# EAGLE library part SST26VF (library sst26)
SST26VF SST26
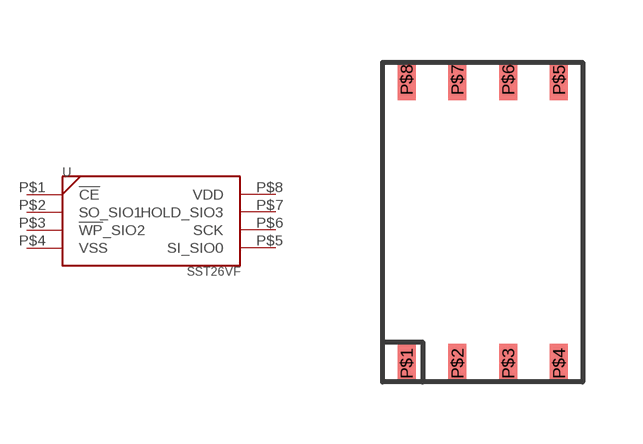
[diagram p0: symbol with the pads of SOIJ8; footprint SOIJ8]

Designator prefix -

## SST26VF  [SOIJ8]
P$1  !CE
P$2  SO_SIO1
P$3  !WP!_SIO2
P$4  VSS
P$5  SI_SIO0
P$6  SCK
P$7  HOLD_SIO3
P$8  VDD

## Footprint SOIJ8 (pad centres in mm)
sst26
smd 0.45 x 1: P$1 -1.97,-3.73; P$2 -0.7,-3.73; P$3 0.57,-3.73; P$4 1.84,-3.73; P$5 1.84,3.37; P$6 0.57,3.37; P$7 -0.7,3.37; P$8 -1.97,3.37